# EAGLE library part 74HC390N (library NXP_By_element14_Batch_1)
Dual decade ripple counter
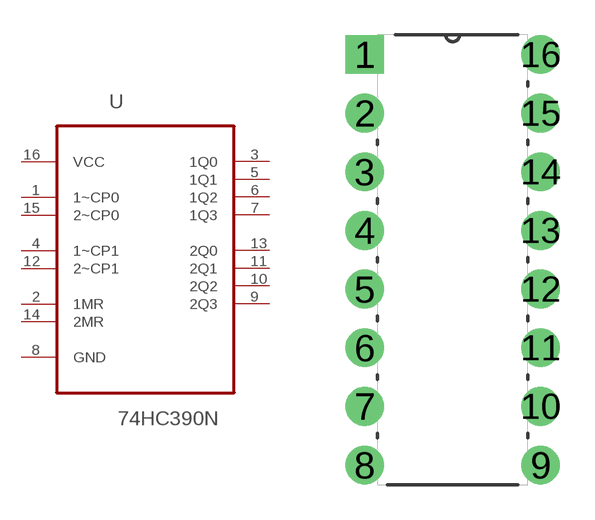
[diagram p80: symbol with the pads of DIP254P762X420-16; footprint DIP254P762X420-16]

Designator prefix U

## 74HC390N (MPN: 74HC390N; OC_FARNELL: 380787; OC_NEWARK: 07WX3721; P1I: o; PACKAGE: DIP-16; SUPPLIER: NXP)  [DIP254P762X420-16]
1  1~CP0  in
2  1MR  in
3  1Q0  out
4  1~CP1  in
5  1Q1  out
6  1Q2  out
7  1Q3  out
8  GND  pas
9  2Q3  out
10  2Q2  out
11  2Q1  out
12  2~CP1  in
13  2Q0  out
14  2MR  in
15  2~CP0  in
16  VCC  pwr

## Footprint DIP254P762X420-16 (pad centres in mm)
drill 1.118 square: 1 -7.62,17.78
drill 1.118: 2 -7.62,15.24; 3 -7.62,12.7; 4 -7.62,10.16; 5 -7.62,7.62; 6 -7.62,5.08; 7 -7.62,2.54; 8 -7.62,0; 9 0,0; 10 0,2.54; 11 0,5.08; 12 0,7.62; 13 0,10.16; 14 0,12.7; 15 0,15.24; 16 0,17.78